# Altium integrated library Resistors.IntLib: 137 symbols (part 1 of 2)
Pins are listed as number, name and electrical type; pins without a type are passive.

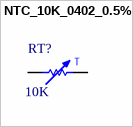
[diagram p0: symbol NTC_10K_0402_0.5%]

## NTC_10K_0402_0.5%
designator RT?, comment value 10K  (hidden comment: 10K 0.5% 0402)
NTC 10K 0.5% 0402 (1005 Metric); PartNumber: NCP15XH103D03RC; Manufacturer: Murata; Power: 0.1W; Mounting Technology: Surface Mount; PackageReference: 0402; PackageDescription: 0402 (1005 Metric); Tolerance: 0.5%
footprint R0402[1005] (Chip Resistor, Body 1.0x0.5mm)
pins: 1, 2
text: T


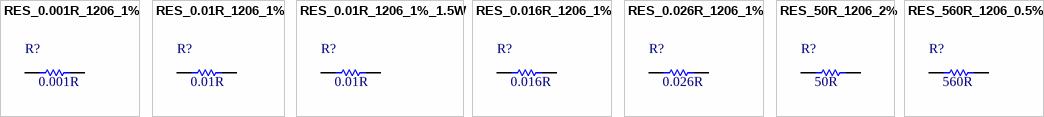
[diagram p1: symbols RES_0.001R_1206_1% to RES_560R_1206_0.5%]

## RES_0.001R_1206_1%
designator R?, comment value 0.001R  (hidden comment: 0.001R 1% 1206)
0.001R 1W 1% 1206 (3216 Metric); Manufacturer: Vishay; PartNumber: WSLP12061L000FEA; Tolerance: 1%; Power: 1W; Mounting Technology: Surface Mount; PackageReference: 1206; PackageDescription: 1206 (3216 Metric); ComponentLink1Description: Datasheet; ComponentLink1URL: https://industrial.panasonic.com/cdbs/www-data/pdf/RDA0000/AOA0000C239.pdf
footprint R1206[3216] (Chip Resistor, Body 3.2x1.6mm)
pins: 1, 2

## RES_0.01R_1206_1%
designator R?, comment value 0.01R  (hidden comment: 0.01R 1% 1206)
0.01R 1W 1% 1206 (3216 Metric); Manufacturer: Panasonic; PartNumber: ERJ-8CWFR010V; Tolerance: 1%; Power: 1W; Mounting Technology: Surface Mount; PackageReference: 1206; PackageDescription: 1206 (3216 Metric); ComponentLink1Description: Datasheet; ComponentLink1URL: https://industrial.panasonic.com/cdbs/www-data/pdf/RDA0000/AOA0000C239.pdf
footprint R1206[3216] (Chip Resistor, Body 3.2x1.6mm)
pins: 1, 2

## RES_0.01R_1206_1%_1.5W
designator R?, comment value 0.01R  (hidden comment: 0.01R 1% 1206)
0.01R 1.5W 1% 1206 (3216 Metric); Manufacturer: KOA Speer; PartNumber: TLR2BPDTD10L0F75; Tolerance: 1%; Power: 1.5W; Mounting Technology: Surface Mount; PackageReference: 1206; PackageDescription: 1206 (3216 Metric)
footprint R1206[3216] (Chip Resistor, Body 3.2x1.6mm)
pins: 1, 2

## RES_0.016R_1206_1%
designator R?, comment value 0.016R  (hidden comment: 0.016R 1% 1206)
0.016R 1W 1% 1206 (3216 Metric); Manufacturer: Panasonic; PartNumber: ERJ-8CWFR016V; Tolerance: 1%; Power: 1W; Mounting Technology: Surface Mount; PackageReference: 1206; PackageDescription: 1206 (3216 Metric); ComponentLink1Description: Datasheet; ComponentLink1URL: https://industrial.panasonic.com/cdbs/www-data/pdf/RDA0000/AOA0000C239.pdf
footprint R1206[3216] (Chip Resistor, Body 3.2x1.6mm)
pins: 1, 2

## RES_0.026R_1206_1%
designator R?, comment value 0.026R  (hidden comment: 0.026R 1% 1206)
0.026R 1W 1% 1206 (3216 Metric); Manufacturer: Panasonic; PartNumber: ERJ-8BWFR027V; Tolerance: 1%; Power: 1W; Mounting Technology: Surface Mount; PackageReference: 1206; PackageDescription: 1206 (3216 Metric); ComponentLink1Description: Datasheet; ComponentLink1URL: https://industrial.panasonic.com/cdbs/www-data/pdf/RDA0000/AOA0000C239.pdf
footprint R1206[3216] (Chip Resistor, Body 3.2x1.6mm)
pins: 1, 2

## RES_50R_1206_2%
designator R?, comment value 50R  (hidden comment: 50R 2% 1206)
50R 2.4W 2% 1206 (3216 Metric); Manufacturer: Vishay; PartNumber: RCP1206W50R0GEB; Tolerance: 2%; Power: 2.4W; Mounting Technology: Surface Mount; PackageReference: 1206; PackageDescription: 1206 (3216 Metric); ComponentLink1Description: Datasheet; ComponentLink1URL: http://www.vishay.com/docs/31098/rcp.pdf
footprint R1206[3216] (Chip Resistor, Body 3.2x1.6mm)
pins: 1, 2

## RES_560R_1206_0.5%
designator R?, comment value 560R  (hidden comment: 560R 0.5% 1206)
560R 1W 0.5% 1206 (3216 Metric); Manufacturer: Susumu; PartNumber: HRG3216P-5600-D-T1; Tolerance: 0.5%; Power: 1W; Mounting Technology: Surface Mount; PackageReference: 1206; PackageDescription: 1206 (3216 Metric); ComponentLink1Description: Datasheet; ComponentLink1URL: http://www.vishay.com/docs/31098/rcp.pdf
footprint R1206[3216] (Chip Resistor, Body 3.2x1.6mm)
pins: 1, 2


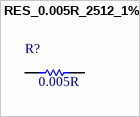
[diagram p2: symbol RES_0.005R_2512_1%]

## RES_0.005R_2512_1%
designator R?, comment value 0.005R  (hidden comment: 0.005R 1% 2512)
0.005R 2.5W 1% 2512 (6432 Metric); Manufacturer: Riedon; PartNumber: CSR2512B0R005F; Tolerance: 1%; Power: 2.5W; Mounting Technology: Surface Mount; PackageReference: 2512; PackageDescription: 2512 (6432 Metric); ComponentLink1Description: Datasheet; ComponentLink1URL: https://industrial.panasonic.com/cdbs/www-data/pdf/RDA0000/AOA0000C239.pdf
footprint R2512[6432] (Chip Resistor, Body 6.35x3.18mm)
pins: 1, 2


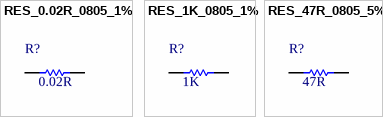
[diagram p3: symbols RES_0.02R_0805_1% to RES_47R_0805_5%]

## RES_0.02R_0805_1%
designator R?, comment value 0.02R  (hidden comment: 0.02R 1% 0805)
0.02R 0.5W 1% 0805 (2012 Metric); Manufacturer: Bourns; PartNumber: CRF0805-FZ-R020ELF; Tolerance: 1%; Power: 0.5W; Mounting Technology: Surface Mount; PackageReference: 0805; PackageDescription: 0805 (2012 Metric)
footprint R0805[2012] (Chip Resistor, Body 2.0x1.25mm)
pins: 1, 2

## RES_1K_0805_1%
designator R?, comment value 1K  (hidden comment: 1K 1% 0805)
1K 0.5W 1% 0805 (2012 Metric); Manufacturer: Panasonic; PartNumber: ERJ-P06F1001V; Tolerance: 1%; Power: 0.5W; Mounting Technology: Surface Mount; PackageReference: 0805; PackageDescription: 0805 (2012 Metric); ComponentLink1Description: Datasheet; ComponentLink1URL: https://industrial.panasonic.com/cdbs/www-data/pdf/RDA0000/AOA0000C243.pdf
footprint R0805[2012] (Chip Resistor, Body 2.0x1.25mm)
pins: 1, 2

## RES_47R_0805_5%
designator R?, comment value 47R  (hidden comment: 47R 5% 0805)
47R 0.5W 5% 0805 (2012 Metric); Manufacturer: Panasonic; PartNumber: ERJ-P06J470V; Tolerance: 5%; Power: 0.5W; Mounting Technology: Surface Mount; PackageReference: 0805; PackageDescription: 0805 (2012 Metric); ComponentLink1Description: Datasheet; ComponentLink1URL: https://industrial.panasonic.com/cdbs/www-data/pdf/RDA0000/AOA0000C243.pdf
footprint R0805[2012] (Chip Resistor, Body 2.0x1.25mm)
pins: 1, 2


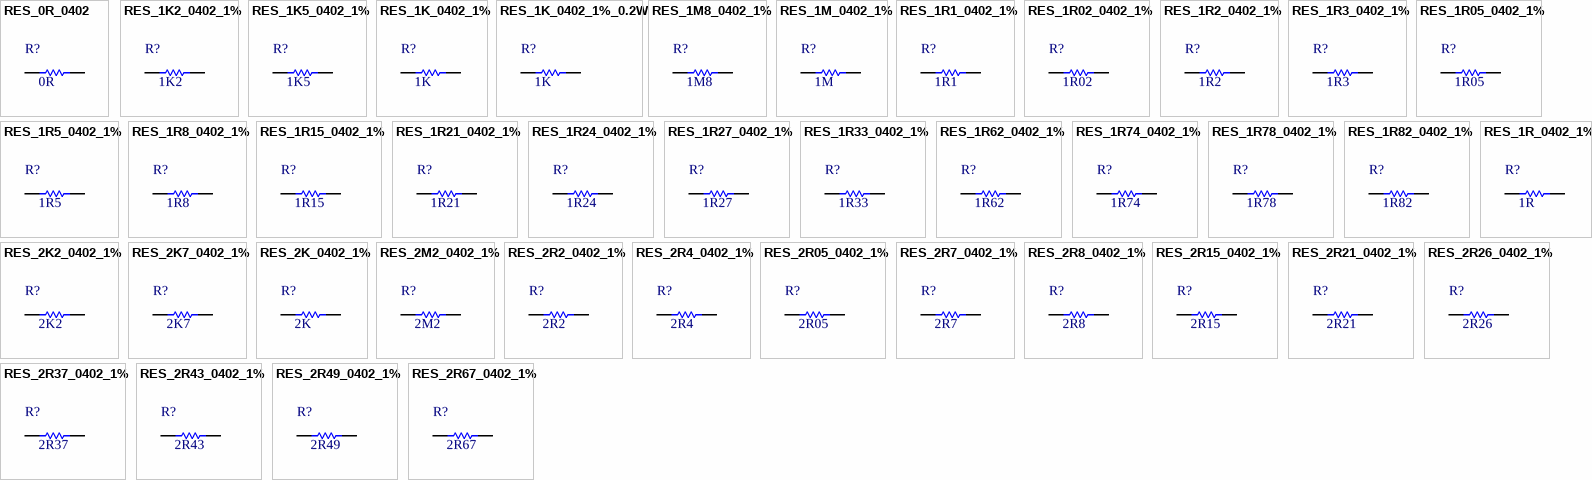
[diagram p4: symbols RES_0R_0402 to RES_2R67_0402_1%]

## RES_0R_0402
designator R?, comment value 0R  (hidden comment: 0R 0402)
0R 0402 (1005 Metric); Manufacturer: KOA Speer; PartNumber: RK73Z1ETTP; Tolerance: None; Power: None; Mounting Technology: Surface Mount; PackageReference: 0402; PackageDescription: 0402 (1005 Metric); ComponentLink1Description: Datasheet; ComponentLink1URL: http://www.koaspeer.com/catimages/Products/RK73Z/RK73Z.pdf
footprint R0402[1005] (Chip Resistor, Body 1.0x0.5mm)
pins: 1, 2

## RES_1K2_0402_1%
designator R?, comment value 1K2  (hidden comment: 1K2 1% 0402)
1K2 0.063W 1% 0402 (1005 Metric); Manufacturer: KOA Speer; PartNumber: RK73H1ETTP1201F; Tolerance: 1%; Power: 0.063W; Mounting Technology: Surface Mount; PackageReference: 0402; PackageDescription: 0402 (1005 Metric); ComponentLink1Description: Datasheet; ComponentLink1URL: http://www.koaspeer.com/catimages/Products/RK73H/RK73H.pdf
footprint R0402[1005] (Chip Resistor, Body 1.0x0.5mm)
pins: 1, 2

## RES_1K5_0402_1%
designator R?, comment value 1K5  (hidden comment: 1K5 1% 0402)
1K5 0.063W 1% 0402 (1005 Metric); Manufacturer: KOA Speer; PartNumber: RK73H1ETTP1501F; Tolerance: 1%; Power: 0.063W; Mounting Technology: Surface Mount; PackageReference: 0402; PackageDescription: 0402 (1005 Metric); ComponentLink1Description: Datasheet; ComponentLink1URL: http://www.koaspeer.com/catimages/Products/RK73H/RK73H.pdf
footprint R0402[1005] (Chip Resistor, Body 1.0x0.5mm)
pins: 1, 2

## RES_1K_0402_1%
designator R?, comment value 1K  (hidden comment: 1K 1% 0402)
1K 0.063W 1% 0402 (1005 Metric); Manufacturer: KOA Speer; PartNumber: RK73H1ETTP1001F; Tolerance: 1%; Power: 0.063W; Mounting Technology: Surface Mount; PackageReference: 0402; PackageDescription: 0402 (1005 Metric); ComponentLink1Description: Datasheet; ComponentLink1URL: http://www.koaspeer.com/catimages/Products/RK73H/RK73H.pdf
footprint R0402[1005] (Chip Resistor, Body 1.0x0.5mm)
pins: 1, 2

## RES_1K_0402_1%_0.2W
designator R?, comment value 1K  (hidden comment: 1K 1% 0402)
1K 0.2W 1% 0402 (1005 Metric); Manufacturer: Vishay / Dale; PartNumber: CRCW04021K00FKEDHP; Tolerance: 1%; Power: 0.2W; Mounting Technology: Surface Mount; PackageReference: 0402; PackageDescription: 0402 (1005 Metric); ComponentLink1Description: Datasheet; ComponentLink1URL: http://www.koaspeer.com/catimages/Products/RK73H/RK73H.pdf
footprint R0402[1005] (Chip Resistor, Body 1.0x0.5mm)
pins: 1, 2

## RES_1M8_0402_1%
designator R?, comment value 1M8  (hidden comment: 1M8 1% 0402)
1M8 0.063W 1% 0402 (1005 Metric); Manufacturer: KOA Speer; PartNumber: RK73H1ETTP1804F; Tolerance: 1%; Power: 0.063W; Mounting Technology: Surface Mount; PackageReference: 0402; PackageDescription: 0402 (1005 Metric); ComponentLink1Description: Datasheet; ComponentLink1URL: http://www.koaspeer.com/catimages/Products/RK73H/RK73H.pdf
footprint R0402[1005] (Chip Resistor, Body 1.0x0.5mm)
pins: 1, 2

## RES_1M_0402_1%
designator R?, comment value 1M  (hidden comment: 1M 1% 0402)
1M 0.063W 1% 0402 (1005 Metric); Manufacturer: KOA Speer; PartNumber: RK73H1ETTP1004F; Tolerance: 1%; Power: 0.063W; Mounting Technology: Surface Mount; PackageReference: 0402; PackageDescription: 0402 (1005 Metric); ComponentLink1Description: Datasheet; ComponentLink1URL: http://www.koaspeer.com/catimages/Products/RK73H/RK73H.pdf
footprint R0402[1005] (Chip Resistor, Body 1.0x0.5mm)
pins: 1, 2

## RES_1R1_0402_1%
designator R?, comment value 1R1  (hidden comment: 1R1 1% 0402)
1R1 0.063W 1% 0402 (1005 Metric); Manufacturer: KOA Speer; PartNumber: RK73H1ETTP1R10F; Tolerance: 1%; Power: 0.063W; Mounting Technology: Surface Mount; PackageReference: 0402; PackageDescription: 0402 (1005 Metric); ComponentLink1Description: Datasheet; ComponentLink1URL: http://www.koaspeer.com/catimages/Products/RK73H/RK73H.pdf
footprint R0402[1005] (Chip Resistor, Body 1.0x0.5mm)
pins: 1, 2

## RES_1R02_0402_1%
designator R?, comment value 1R02  (hidden comment: 1R02 1% 0402)
1R02 0.063W 1% 0402 (1005 Metric); Manufacturer: KOA Speer; PartNumber: RK73H1ETTP1R02F; Tolerance: 1%; Power: 0.063W; Mounting Technology: Surface Mount; PackageReference: 0402; PackageDescription: 0402 (1005 Metric); ComponentLink1Description: Datasheet; ComponentLink1URL: http://www.koaspeer.com/catimages/Products/RK73H/RK73H.pdf
footprint R0402[1005] (Chip Resistor, Body 1.0x0.5mm)
pins: 1, 2

## RES_1R2_0402_1%
designator R?, comment value 1R2  (hidden comment: 1R2 1% 0402)
1R2 0.063W 1% 0402 (1005 Metric); Manufacturer: KOA Speer; PartNumber: RK73H1ETTP1R20F; Tolerance: 1%; Power: 0.063W; Mounting Technology: Surface Mount; PackageReference: 0402; PackageDescription: 0402 (1005 Metric); ComponentLink1Description: Datasheet; ComponentLink1URL: http://www.koaspeer.com/catimages/Products/RK73H/RK73H.pdf
footprint R0402[1005] (Chip Resistor, Body 1.0x0.5mm)
pins: 1, 2

## RES_1R3_0402_1%
designator R?, comment value 1R3  (hidden comment: 1R3 1% 0402)
1R3 0.063W 1% 0402 (1005 Metric); Manufacturer: KOA Speer; PartNumber: RK73H1ETTP1R30F; Tolerance: 1%; Power: 0.063W; Mounting Technology: Surface Mount; PackageReference: 0402; PackageDescription: 0402 (1005 Metric); ComponentLink1Description: Datasheet; ComponentLink1URL: http://www.koaspeer.com/catimages/Products/RK73H/RK73H.pdf
footprint R0402[1005] (Chip Resistor, Body 1.0x0.5mm)
pins: 1, 2

## RES_1R05_0402_1%
designator R?, comment value 1R05  (hidden comment: 1R05 1% 0402)
1R05 0.063W 1% 0402 (1005 Metric); Manufacturer: KOA Speer; PartNumber: RK73H1ETTP1R05F; Tolerance: 1%; Power: 0.063W; Mounting Technology: Surface Mount; PackageReference: 0402; PackageDescription: 0402 (1005 Metric); ComponentLink1Description: Datasheet; ComponentLink1URL: http://www.koaspeer.com/catimages/Products/RK73H/RK73H.pdf
footprint R0402[1005] (Chip Resistor, Body 1.0x0.5mm)
pins: 1, 2

## RES_1R5_0402_1%
designator R?, comment value 1R5  (hidden comment: 1R5 1% 0402)
1R5 0.063W 1% 0402 (1005 Metric); Manufacturer: KOA Speer; PartNumber: RK73H1ETTP1R50F; Tolerance: 1%; Power: 0.063W; Mounting Technology: Surface Mount; PackageReference: 0402; PackageDescription: 0402 (1005 Metric); ComponentLink1Description: Datasheet; ComponentLink1URL: http://www.koaspeer.com/catimages/Products/RK73H/RK73H.pdf
footprint R0402[1005] (Chip Resistor, Body 1.0x0.5mm)
pins: 1, 2

## RES_1R8_0402_1%
designator R?, comment value 1R8  (hidden comment: 1R8 1% 0402)
1R8 0.063W 1% 0402 (1005 Metric); Manufacturer: KOA Speer; PartNumber: RK73H1ETTP1R80F; Tolerance: 1%; Power: 0.063W; Mounting Technology: Surface Mount; PackageReference: 0402; PackageDescription: 0402 (1005 Metric); ComponentLink1Description: Datasheet; ComponentLink1URL: http://www.koaspeer.com/catimages/Products/RK73H/RK73H.pdf
footprint R0402[1005] (Chip Resistor, Body 1.0x0.5mm)
pins: 1, 2

## RES_1R15_0402_1%
designator R?, comment value 1R15  (hidden comment: 1R15 1% 0402)
1R15 0.063W 1% 0402 (1005 Metric); Manufacturer: KOA Speer; PartNumber: RK73H1ETTP1R15F; Tolerance: 1%; Power: 0.063W; Mounting Technology: Surface Mount; PackageReference: 0402; PackageDescription: 0402 (1005 Metric); ComponentLink1Description: Datasheet; ComponentLink1URL: http://www.koaspeer.com/catimages/Products/RK73H/RK73H.pdf
footprint R0402[1005] (Chip Resistor, Body 1.0x0.5mm)
pins: 1, 2

## RES_1R21_0402_1%
designator R?, comment value 1R21  (hidden comment: 1R21 1% 0402)
1R21 0.063W 1% 0402 (1005 Metric); Manufacturer: KOA Speer; PartNumber: RK73H1ETTP1R21F; Tolerance: 1%; Power: 0.063W; Mounting Technology: Surface Mount; PackageReference: 0402; PackageDescription: 0402 (1005 Metric); ComponentLink1Description: Datasheet; ComponentLink1URL: http://www.koaspeer.com/catimages/Products/RK73H/RK73H.pdf
footprint R0402[1005] (Chip Resistor, Body 1.0x0.5mm)
pins: 1, 2

## RES_1R24_0402_1%
designator R?, comment value 1R24  (hidden comment: 1R24 1% 0402)
1R24 0.063W 1% 0402 (1005 Metric); Manufacturer: KOA Speer; PartNumber: RK73H1ETTP1R24F; Tolerance: 1%; Power: 0.063W; Mounting Technology: Surface Mount; PackageReference: 0402; PackageDescription: 0402 (1005 Metric); ComponentLink1Description: Datasheet; ComponentLink1URL: http://www.koaspeer.com/catimages/Products/RK73H/RK73H.pdf
footprint R0402[1005] (Chip Resistor, Body 1.0x0.5mm)
pins: 1, 2

## RES_1R27_0402_1%
designator R?, comment value 1R27  (hidden comment: 1R27 1% 0402)
1R27 0.063W 1% 0402 (1005 Metric); Manufacturer: KOA Speer; PartNumber: RK73H1ETTP1R27F; Tolerance: 1%; Power: 0.063W; Mounting Technology: Surface Mount; PackageReference: 0402; PackageDescription: 0402 (1005 Metric); ComponentLink1Description: Datasheet; ComponentLink1URL: http://www.koaspeer.com/catimages/Products/RK73H/RK73H.pdf
footprint R0402[1005] (Chip Resistor, Body 1.0x0.5mm)
pins: 1, 2

## RES_1R33_0402_1%
designator R?, comment value 1R33  (hidden comment: 1R33 1% 0402)
1R33 0.063W 1% 0402 (1005 Metric); Manufacturer: KOA Speer; PartNumber: RK73H1ETTP1R33F; Tolerance: 1%; Power: 0.063W; Mounting Technology: Surface Mount; PackageReference: 0402; PackageDescription: 0402 (1005 Metric); ComponentLink1Description: Datasheet; ComponentLink1URL: http://www.koaspeer.com/catimages/Products/RK73H/RK73H.pdf
footprint R0402[1005] (Chip Resistor, Body 1.0x0.5mm)
pins: 1, 2

## RES_1R62_0402_1%
designator R?, comment value 1R62  (hidden comment: 1R62 1% 0402)
1R62 0.063W 1% 0402 (1005 Metric); Manufacturer: KOA Speer; PartNumber: RK73H1ETTP1R62F; Tolerance: 1%; Power: 0.063W; Mounting Technology: Surface Mount; PackageReference: 0402; PackageDescription: 0402 (1005 Metric); ComponentLink1Description: Datasheet; ComponentLink1URL: http://www.koaspeer.com/catimages/Products/RK73H/RK73H.pdf
footprint R0402[1005] (Chip Resistor, Body 1.0x0.5mm)
pins: 1, 2

## RES_1R74_0402_1%
designator R?, comment value 1R74  (hidden comment: 1R74 1% 0402)
1R74 0.063W 1% 0402 (1005 Metric); Manufacturer: KOA Speer; PartNumber: RK73H1ETTP1R74F; Tolerance: 1%; Power: 0.063W; Mounting Technology: Surface Mount; PackageReference: 0402; PackageDescription: 0402 (1005 Metric); ComponentLink1Description: Datasheet; ComponentLink1URL: http://www.koaspeer.com/catimages/Products/RK73H/RK73H.pdf
footprint R0402[1005] (Chip Resistor, Body 1.0x0.5mm)
pins: 1, 2

## RES_1R78_0402_1%
designator R?, comment value 1R78  (hidden comment: 1R78 1% 0402)
1R78 0.063W 1% 0402 (1005 Metric); Manufacturer: KOA Speer; PartNumber: RK73H1ETTP1R78F; Tolerance: 1%; Power: 0.063W; Mounting Technology: Surface Mount; PackageReference: 0402; PackageDescription: 0402 (1005 Metric); ComponentLink1Description: Datasheet; ComponentLink1URL: http://www.koaspeer.com/catimages/Products/RK73H/RK73H.pdf
footprint R0402[1005] (Chip Resistor, Body 1.0x0.5mm)
pins: 1, 2

## RES_1R82_0402_1%
designator R?, comment value 1R82  (hidden comment: 1R82 1% 0402)
1R82 0.063W 1% 0402 (1005 Metric); Manufacturer: KOA Speer; PartNumber: RK73H1ETTP1R82F; Tolerance: 1%; Power: 0.063W; Mounting Technology: Surface Mount; PackageReference: 0402; PackageDescription: 0402 (1005 Metric); ComponentLink1Description: Datasheet; ComponentLink1URL: http://www.koaspeer.com/catimages/Products/RK73H/RK73H.pdf
footprint R0402[1005] (Chip Resistor, Body 1.0x0.5mm)
pins: 1, 2

## RES_1R_0402_1%
designator R?, comment value 1R  (hidden comment: 1R 1% 0402)
1R 0.063W 1% 0402 (1005 Metric); Manufacturer: KOA Speer; PartNumber: RK73H1ETTP1R00F; Tolerance: 1%; Power: 0.063W; Mounting Technology: Surface Mount; PackageReference: 0402; PackageDescription: 0402 (1005 Metric); ComponentLink1Description: Datasheet; ComponentLink1URL: http://www.koaspeer.com/catimages/Products/RK73H/RK73H.pdf
footprint R0402[1005] (Chip Resistor, Body 1.0x0.5mm)
pins: 1, 2

## RES_2K2_0402_1%
designator R?, comment value 2K2  (hidden comment: 2K2 1% 0402)
2K2 0.063W 1% 0402 (1005 Metric); Manufacturer: KOA Speer; PartNumber: RK73H1ETTP2201F; Tolerance: 1%; Power: 0.063W; Mounting Technology: Surface Mount; PackageReference: 0402; PackageDescription: 0402 (1005 Metric); ComponentLink1Description: Datasheet; ComponentLink1URL: http://www.koaspeer.com/catimages/Products/RK73H/RK73H.pdf
footprint R0402[1005] (Chip Resistor, Body 1.0x0.5mm)
pins: 1, 2

## RES_2K7_0402_1%
designator R?, comment value 2K7  (hidden comment: 2K7 1% 0402)
2K7 0.063W 1% 0402 (1005 Metric); Manufacturer: KOA Speer; PartNumber: RK73H1ETTP2701F; Tolerance: 1%; Power: 0.063W; Mounting Technology: Surface Mount; PackageReference: 0402; PackageDescription: 0402 (1005 Metric); ComponentLink1Description: Datasheet; ComponentLink1URL: http://www.koaspeer.com/catimages/Products/RK73H/RK73H.pdf
footprint R0402[1005] (Chip Resistor, Body 1.0x0.5mm)
pins: 1, 2

## RES_2K_0402_1%
designator R?, comment value 2K  (hidden comment: 2K 1% 0402)
2K 0.063W 1% 0402 (1005 Metric); Manufacturer: KOA Speer; PartNumber: RK73H1ETTP2001F; Tolerance: 1%; Power: 0.063W; Mounting Technology: Surface Mount; PackageReference: 0402; PackageDescription: 0402 (1005 Metric); ComponentLink1Description: Datasheet; ComponentLink1URL: http://www.koaspeer.com/catimages/Products/RK73H/RK73H.pdf
footprint R0402[1005] (Chip Resistor, Body 1.0x0.5mm)
pins: 1, 2

## RES_2M2_0402_1%
designator R?, comment value 2M2  (hidden comment: 2M2 1% 0402)
2M2 0.063W 1% 0402 (1005 Metric); Manufacturer: KOA Speer; PartNumber: RK73H1ETTP2204F; Tolerance: 1%; Power: 0.063W; Mounting Technology: Surface Mount; PackageReference: 0402; PackageDescription: 0402 (1005 Metric); ComponentLink1Description: Datasheet; ComponentLink1URL: http://www.koaspeer.com/catimages/Products/RK73H/RK73H.pdf
footprint R0402[1005] (Chip Resistor, Body 1.0x0.5mm)
pins: 1, 2

## RES_2R2_0402_1%
designator R?, comment value 2R2  (hidden comment: 2R2 1% 0402)
2R2 0.063W 1% 0402 (1005 Metric); Manufacturer: KOA Speer; PartNumber: RK73H1ETTP2R20F; Tolerance: 1%; Power: 0.063W; Mounting Technology: Surface Mount; PackageReference: 0402; PackageDescription: 0402 (1005 Metric); ComponentLink1Description: Datasheet; ComponentLink1URL: http://www.koaspeer.com/catimages/Products/RK73H/RK73H.pdf
footprint R0402[1005] (Chip Resistor, Body 1.0x0.5mm)
pins: 1, 2

## RES_2R4_0402_1%
designator R?, comment value 2R4  (hidden comment: 2R4 1% 0402)
2R4 0.063W 1% 0402 (1005 Metric); Manufacturer: KOA Speer; PartNumber: RK73H1ETTP2R40F; Tolerance: 1%; Power: 0.063W; Mounting Technology: Surface Mount; PackageReference: 0402; PackageDescription: 0402 (1005 Metric); ComponentLink1Description: Datasheet; ComponentLink1URL: http://www.koaspeer.com/catimages/Products/RK73H/RK73H.pdf
footprint R0402[1005] (Chip Resistor, Body 1.0x0.5mm)
pins: 1, 2

## RES_2R05_0402_1%
designator R?, comment value 2R05  (hidden comment: 2R05 1% 0402)
2R05 0.063W 1% 0402 (1005 Metric); Manufacturer: KOA Speer; PartNumber: RK73H1ETTP2R05F; Tolerance: 1%; Power: 0.063W; Mounting Technology: Surface Mount; PackageReference: 0402; PackageDescription: 0402 (1005 Metric); ComponentLink1Description: Datasheet; ComponentLink1URL: http://www.koaspeer.com/catimages/Products/RK73H/RK73H.pdf
footprint R0402[1005] (Chip Resistor, Body 1.0x0.5mm)
pins: 1, 2

## RES_2R7_0402_1%
designator R?, comment value 2R7  (hidden comment: 2R7 1% 0402)
2R7 0.063W 1% 0402 (1005 Metric); Manufacturer: KOA Speer; PartNumber: RK73H1ETTP2R70F; Tolerance: 1%; Power: 0.063W; Mounting Technology: Surface Mount; PackageReference: 0402; PackageDescription: 0402 (1005 Metric); ComponentLink1Description: Datasheet; ComponentLink1URL: http://www.koaspeer.com/catimages/Products/RK73H/RK73H.pdf
footprint R0402[1005] (Chip Resistor, Body 1.0x0.5mm)
pins: 1, 2

## RES_2R8_0402_1%
designator R?, comment value 2R8  (hidden comment: 2R8 1% 0402)
2R8 0.063W 1% 0402 (1005 Metric); Manufacturer: KOA Speer; PartNumber: RK73H1ETTP2R80F; Tolerance: 1%; Power: 0.063W; Mounting Technology: Surface Mount; PackageReference: 0402; PackageDescription: 0402 (1005 Metric); ComponentLink1Description: Datasheet; ComponentLink1URL: http://www.koaspeer.com/catimages/Products/RK73H/RK73H.pdf
footprint R0402[1005] (Chip Resistor, Body 1.0x0.5mm)
pins: 1, 2

## RES_2R15_0402_1%
designator R?, comment value 2R15  (hidden comment: 2R15 1% 0402)
2R15 0.063W 1% 0402 (1005 Metric); Manufacturer: KOA Speer; PartNumber: RK73H1ETTP2R15F; Tolerance: 1%; Power: 0.063W; Mounting Technology: Surface Mount; PackageReference: 0402; PackageDescription: 0402 (1005 Metric); ComponentLink1Description: Datasheet; ComponentLink1URL: http://www.koaspeer.com/catimages/Products/RK73H/RK73H.pdf
footprint R0402[1005] (Chip Resistor, Body 1.0x0.5mm)
pins: 1, 2

## RES_2R21_0402_1%
designator R?, comment value 2R21  (hidden comment: 2R21 1% 0402)
2R21 0.063W 1% 0402 (1005 Metric); Manufacturer: KOA Speer; PartNumber: RK73H1ETTP2R21F; Tolerance: 1%; Power: 0.063W; Mounting Technology: Surface Mount; PackageReference: 0402; PackageDescription: 0402 (1005 Metric); ComponentLink1Description: Datasheet; ComponentLink1URL: http://www.koaspeer.com/catimages/Products/RK73H/RK73H.pdf
footprint R0402[1005] (Chip Resistor, Body 1.0x0.5mm)
pins: 1, 2

## RES_2R26_0402_1%
designator R?, comment value 2R26  (hidden comment: 2R26 1% 0402)
2R26 0.063W 1% 0402 (1005 Metric); Manufacturer: KOA Speer; PartNumber: RK73H1ETTP2R26F; Tolerance: 1%; Power: 0.063W; Mounting Technology: Surface Mount; PackageReference: 0402; PackageDescription: 0402 (1005 Metric); ComponentLink1Description: Datasheet; ComponentLink1URL: http://www.koaspeer.com/catimages/Products/RK73H/RK73H.pdf
footprint R0402[1005] (Chip Resistor, Body 1.0x0.5mm)
pins: 1, 2

## RES_2R37_0402_1%
designator R?, comment value 2R37  (hidden comment: 2R37 1% 0402)
2R37 0.063W 1% 0402 (1005 Metric); Manufacturer: KOA Speer; PartNumber: RK73H1ETTP2R37F; Tolerance: 1%; Power: 0.063W; Mounting Technology: Surface Mount; PackageReference: 0402; PackageDescription: 0402 (1005 Metric); ComponentLink1Description: Datasheet; ComponentLink1URL: http://www.koaspeer.com/catimages/Products/RK73H/RK73H.pdf
footprint R0402[1005] (Chip Resistor, Body 1.0x0.5mm)
pins: 1, 2

## RES_2R43_0402_1%
designator R?, comment value 2R43  (hidden comment: 2R43 1% 0402)
2R43 0.063W 1% 0402 (1005 Metric); Manufacturer: KOA Speer; PartNumber: RK73H1ETTP2R43F; Tolerance: 1%; Power: 0.063W; Mounting Technology: Surface Mount; PackageReference: 0402; PackageDescription: 0402 (1005 Metric); ComponentLink1Description: Datasheet; ComponentLink1URL: http://www.koaspeer.com/catimages/Products/RK73H/RK73H.pdf
footprint R0402[1005] (Chip Resistor, Body 1.0x0.5mm)
pins: 1, 2

## RES_2R49_0402_1%
designator R?, comment value 2R49  (hidden comment: 2R49 1% 0402)
2R49 0.063W 1% 0402 (1005 Metric); Manufacturer: KOA Speer; PartNumber: RK73H1ETTP2R49F; Tolerance: 1%; Power: 0.063W; Mounting Technology: Surface Mount; PackageReference: 0402; PackageDescription: 0402 (1005 Metric); ComponentLink1Description: Datasheet; ComponentLink1URL: http://www.koaspeer.com/catimages/Products/RK73H/RK73H.pdf
footprint R0402[1005] (Chip Resistor, Body 1.0x0.5mm)
pins: 1, 2

## RES_2R67_0402_1%
designator R?, comment value 2R67  (hidden comment: 2R67 1% 0402)
2R67 0.063W 1% 0402 (1005 Metric); Manufacturer: KOA Speer; PartNumber: RK73H1ETTP2R67F; Tolerance: 1%; Power: 0.063W; Mounting Technology: Surface Mount; PackageReference: 0402; PackageDescription: 0402 (1005 Metric); ComponentLink1Description: Datasheet; ComponentLink1URL: http://www.koaspeer.com/catimages/Products/RK73H/RK73H.pdf
footprint R0402[1005] (Chip Resistor, Body 1.0x0.5mm)
pins: 1, 2

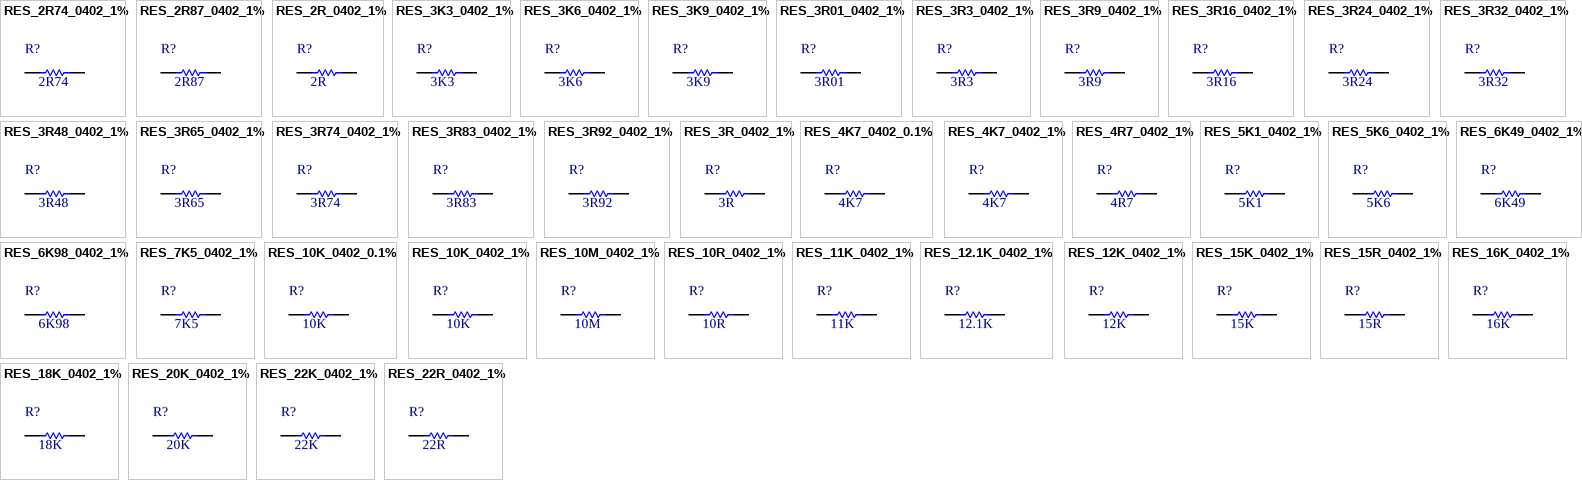
[diagram p5: symbols RES_2R74_0402_1% to RES_22R_0402_1%]

## RES_2R74_0402_1%
designator R?, comment value 2R74  (hidden comment: 2R74 1% 0402)
2R74 0.063W 1% 0402 (1005 Metric); Manufacturer: KOA Speer; PartNumber: RK73H1ETTP2R74F; Tolerance: 1%; Power: 0.063W; Mounting Technology: Surface Mount; PackageReference: 0402; PackageDescription: 0402 (1005 Metric); ComponentLink1Description: Datasheet; ComponentLink1URL: http://www.koaspeer.com/catimages/Products/RK73H/RK73H.pdf
footprint R0402[1005] (Chip Resistor, Body 1.0x0.5mm)
pins: 1, 2

## RES_2R87_0402_1%
designator R?, comment value 2R87  (hidden comment: 2R87 1% 0402)
2R87 0.063W 1% 0402 (1005 Metric); Manufacturer: KOA Speer; PartNumber: RK73H1ETTP2R87F; Tolerance: 1%; Power: 0.063W; Mounting Technology: Surface Mount; PackageReference: 0402; PackageDescription: 0402 (1005 Metric); ComponentLink1Description: Datasheet; ComponentLink1URL: http://www.koaspeer.com/catimages/Products/RK73H/RK73H.pdf
footprint R0402[1005] (Chip Resistor, Body 1.0x0.5mm)
pins: 1, 2

## RES_2R_0402_1%
designator R?, comment value 2R  (hidden comment: 2R 1% 0402)
2R 0.063W 1% 0402 (1005 Metric); Manufacturer: KOA Speer; PartNumber: RK73H1ETTP2R00F; Tolerance: 1%; Power: 0.063W; Mounting Technology: Surface Mount; PackageReference: 0402; PackageDescription: 0402 (1005 Metric); ComponentLink1Description: Datasheet; ComponentLink1URL: http://www.koaspeer.com/catimages/Products/RK73H/RK73H.pdf
footprint R0402[1005] (Chip Resistor, Body 1.0x0.5mm)
pins: 1, 2

## RES_3K3_0402_1%
designator R?, comment value 3K3  (hidden comment: 3K3 1% 0402)
3K3 0.063W 1% 0402 (1005 Metric); Manufacturer: KOA Speer; PartNumber: RK73H1ETTP3301F; Tolerance: 1%; Power: 0.063W; Mounting Technology: Surface Mount; PackageReference: 0402; PackageDescription: 0402 (1005 Metric); ComponentLink1Description: Datasheet; ComponentLink1URL: http://www.koaspeer.com/catimages/Products/RK73H/RK73H.pdf
footprint R0402[1005] (Chip Resistor, Body 1.0x0.5mm)
pins: 1, 2

## RES_3K6_0402_1%
designator R?, comment value 3K6  (hidden comment: 3K6 1% 0402)
3K6 0.063W 1% 0402 (1005 Metric); Manufacturer: KOA Speer; PartNumber: RK73H1ETTP3601F; Tolerance: 1%; Power: 0.063W; Mounting Technology: Surface Mount; PackageReference: 0402; PackageDescription: 0402 (1005 Metric); ComponentLink1Description: Datasheet; ComponentLink1URL: http://www.koaspeer.com/catimages/Products/RK73H/RK73H.pdf
footprint R0402[1005] (Chip Resistor, Body 1.0x0.5mm)
pins: 1, 2

## RES_3K9_0402_1%
designator R?, comment value 3K9  (hidden comment: 3K9 1% 0402)
3K9 0.063W 1% 0402 (1005 Metric); Manufacturer: KOA Speer; PartNumber: RK73H1ETTP3901F; Tolerance: 1%; Power: 0.063W; Mounting Technology: Surface Mount; PackageReference: 0402; PackageDescription: 0402 (1005 Metric); ComponentLink1Description: Datasheet; ComponentLink1URL: http://www.koaspeer.com/catimages/Products/RK73H/RK73H.pdf
footprint R0402[1005] (Chip Resistor, Body 1.0x0.5mm)
pins: 1, 2

## RES_3R01_0402_1%
designator R?, comment value 3R01  (hidden comment: 3R01 1% 0402)
3R01 0.063W 1% 0402 (1005 Metric); Manufacturer: KOA Speer; PartNumber: RK73H1ETTP2R00F; Tolerance: 1%; Power: 0.063W; Mounting Technology: Surface Mount; PackageReference: 0402; PackageDescription: 0402 (1005 Metric); ComponentLink1Description: Datasheet; ComponentLink1URL: http://www.koaspeer.com/catimages/Products/RK73H/RK73H.pdf
footprint R0402[1005] (Chip Resistor, Body 1.0x0.5mm)
pins: 1, 2

## RES_3R3_0402_1%
designator R?, comment value 3R3  (hidden comment: 3R3 1% 0402)
3R3 0.063W 1% 0402 (1005 Metric); Manufacturer: KOA Speer; PartNumber: RK73H1ETTP2R00F; Tolerance: 1%; Power: 0.063W; Mounting Technology: Surface Mount; PackageReference: 0402; PackageDescription: 0402 (1005 Metric); ComponentLink1Description: Datasheet; ComponentLink1URL: http://www.koaspeer.com/catimages/Products/RK73H/RK73H.pdf
footprint R0402[1005] (Chip Resistor, Body 1.0x0.5mm)
pins: 1, 2

## RES_3R9_0402_1%
designator R?, comment value 3R9  (hidden comment: 3R9 1% 0402)
3R9 0.063W 1% 0402 (1005 Metric); Manufacturer: KOA Speer; PartNumber: RK73H1ETTP2R00F; Tolerance: 1%; Power: 0.063W; Mounting Technology: Surface Mount; PackageReference: 0402; PackageDescription: 0402 (1005 Metric); ComponentLink1Description: Datasheet; ComponentLink1URL: http://www.koaspeer.com/catimages/Products/RK73H/RK73H.pdf
footprint R0402[1005] (Chip Resistor, Body 1.0x0.5mm)
pins: 1, 2

## RES_3R16_0402_1%
designator R?, comment value 3R16  (hidden comment: 3R16 1% 0402)
3R16 0.063W 1% 0402 (1005 Metric); Manufacturer: KOA Speer; PartNumber: RK73H1ETTP2R00F; Tolerance: 1%; Power: 0.063W; Mounting Technology: Surface Mount; PackageReference: 0402; PackageDescription: 0402 (1005 Metric); ComponentLink1Description: Datasheet; ComponentLink1URL: http://www.koaspeer.com/catimages/Products/RK73H/RK73H.pdf
footprint R0402[1005] (Chip Resistor, Body 1.0x0.5mm)
pins: 1, 2

## RES_3R24_0402_1%
designator R?, comment value 3R24  (hidden comment: 3R24 1% 0402)
3R24 0.063W 1% 0402 (1005 Metric); Manufacturer: KOA Speer; PartNumber: RK73H1ETTP2R00F; Tolerance: 1%; Power: 0.063W; Mounting Technology: Surface Mount; PackageReference: 0402; PackageDescription: 0402 (1005 Metric); ComponentLink1Description: Datasheet; ComponentLink1URL: http://www.koaspeer.com/catimages/Products/RK73H/RK73H.pdf
footprint R0402[1005] (Chip Resistor, Body 1.0x0.5mm)
pins: 1, 2

## RES_3R32_0402_1%
designator R?, comment value 3R32  (hidden comment: 3R32 1% 0402)
3R32 0.063W 1% 0402 (1005 Metric); Manufacturer: KOA Speer; PartNumber: RK73H1ETTP2R00F; Tolerance: 1%; Power: 0.063W; Mounting Technology: Surface Mount; PackageReference: 0402; PackageDescription: 0402 (1005 Metric); ComponentLink1Description: Datasheet; ComponentLink1URL: http://www.koaspeer.com/catimages/Products/RK73H/RK73H.pdf
footprint R0402[1005] (Chip Resistor, Body 1.0x0.5mm)
pins: 1, 2

## RES_3R48_0402_1%
designator R?, comment value 3R48  (hidden comment: 3R48 1% 0402)
3R48 0.063W 1% 0402 (1005 Metric); Manufacturer: KOA Speer; PartNumber: RK73H1ETTP2R00F; Tolerance: 1%; Power: 0.063W; Mounting Technology: Surface Mount; PackageReference: 0402; PackageDescription: 0402 (1005 Metric); ComponentLink1Description: Datasheet; ComponentLink1URL: http://www.koaspeer.com/catimages/Products/RK73H/RK73H.pdf
footprint R0402[1005] (Chip Resistor, Body 1.0x0.5mm)
pins: 1, 2

## RES_3R65_0402_1%
designator R?, comment value 3R65  (hidden comment: 3R65 1% 0402)
3R65 0.063W 1% 0402 (1005 Metric); Manufacturer: KOA Speer; PartNumber: RK73H1ETTP2R00F; Tolerance: 1%; Power: 0.063W; Mounting Technology: Surface Mount; PackageReference: 0402; PackageDescription: 0402 (1005 Metric); ComponentLink1Description: Datasheet; ComponentLink1URL: http://www.koaspeer.com/catimages/Products/RK73H/RK73H.pdf
footprint R0402[1005] (Chip Resistor, Body 1.0x0.5mm)
pins: 1, 2

## RES_3R74_0402_1%
designator R?, comment value 3R74  (hidden comment: 3R74 1% 0402)
3R74 0.063W 1% 0402 (1005 Metric); Manufacturer: KOA Speer; PartNumber: RK73H1ETTP2R00F; Tolerance: 1%; Power: 0.063W; Mounting Technology: Surface Mount; PackageReference: 0402; PackageDescription: 0402 (1005 Metric); ComponentLink1Description: Datasheet; ComponentLink1URL: http://www.koaspeer.com/catimages/Products/RK73H/RK73H.pdf
footprint R0402[1005] (Chip Resistor, Body 1.0x0.5mm)
pins: 1, 2

## RES_3R83_0402_1%
designator R?, comment value 3R83  (hidden comment: 3R83 1% 0402)
3R83 0.063W 1% 0402 (1005 Metric); Manufacturer: KOA Speer; PartNumber: RK73H1ETTP2R00F; Tolerance: 1%; Power: 0.063W; Mounting Technology: Surface Mount; PackageReference: 0402; PackageDescription: 0402 (1005 Metric); ComponentLink1Description: Datasheet; ComponentLink1URL: http://www.koaspeer.com/catimages/Products/RK73H/RK73H.pdf
footprint R0402[1005] (Chip Resistor, Body 1.0x0.5mm)
pins: 1, 2

## RES_3R92_0402_1%
designator R?, comment value 3R92  (hidden comment: 3R92 1% 0402)
3R92 0.063W 1% 0402 (1005 Metric); Manufacturer: KOA Speer; PartNumber: RK73H1ETTP2R00F; Tolerance: 1%; Power: 0.063W; Mounting Technology: Surface Mount; PackageReference: 0402; PackageDescription: 0402 (1005 Metric); ComponentLink1Description: Datasheet; ComponentLink1URL: http://www.koaspeer.com/catimages/Products/RK73H/RK73H.pdf
footprint R0402[1005] (Chip Resistor, Body 1.0x0.5mm)
pins: 1, 2

## RES_3R_0402_1%
designator R?, comment value 3R  (hidden comment: 3R 1% 0402)
3R 0.063W 1% 0402 (1005 Metric); Manufacturer: KOA Speer; PartNumber: RK73H1ETTP2R00F; Tolerance: 1%; Power: 0.063W; Mounting Technology: Surface Mount; PackageReference: 0402; PackageDescription: 0402 (1005 Metric); ComponentLink1Description: Datasheet; ComponentLink1URL: http://www.koaspeer.com/catimages/Products/RK73H/RK73H.pdf
footprint R0402[1005] (Chip Resistor, Body 1.0x0.5mm)
pins: 1, 2

## RES_4K7_0402_0.1%
designator R?, comment value 4K7  (hidden comment: 4K7 0.1% 0402)
4K7 0.063W 0.1% 0402 (1005 Metric); Manufacturer: KOA Speer; PartNumber: RT0402BRB074K7L; Tolerance: 0.1%; Power: 0.063W; Mounting Technology: Surface Mount; PackageReference: 0402; PackageDescription: 0402 (1005 Metric); ComponentLink1Description: Datasheet; ComponentLink1URL: http://www.koaspeer.com/catimages/Products/RK73H/RK73H.pdf
footprint R0402[1005] (Chip Resistor, Body 1.0x0.5mm)
pins: 1, 2

## RES_4K7_0402_1%
designator R?, comment value 4K7  (hidden comment: 4K7 1% 0402)
4K7 0.063W 1% 0402 (1005 Metric); Manufacturer: KOA Speer; PartNumber: RK73H1ETTP4701F; Tolerance: 1%; Power: 0.063W; Mounting Technology: Surface Mount; PackageReference: 0402; PackageDescription: 0402 (1005 Metric); ComponentLink1Description: Datasheet; ComponentLink1URL: http://www.koaspeer.com/catimages/Products/RK73H/RK73H.pdf
footprint R0402[1005] (Chip Resistor, Body 1.0x0.5mm)
pins: 1, 2

## RES_4R7_0402_1%
designator R?, comment value 4R7  (hidden comment: 4R7 1% 0402)
4R7 0.063W 1% 0402 (1005 Metric); Manufacturer: KOA Speer; PartNumber: RK73H1ETTP4R70F; Tolerance: 1%; Power: 0.063W; Mounting Technology: Surface Mount; PackageReference: 0402; PackageDescription: 0402 (1005 Metric); ComponentLink1Description: Datasheet; ComponentLink1URL: http://www.koaspeer.com/catimages/Products/RK73H/RK73H.pdf
footprint R0402[1005] (Chip Resistor, Body 1.0x0.5mm)
pins: 1, 2

## RES_5K1_0402_1%
designator R?, comment value 5K1  (hidden comment: 5K1 1% 0402)
5K1 0.063W 1% 0402 (1005 Metric); Manufacturer: KOA Speer; PartNumber: RK73H1ETTP5101F; Tolerance: 1%; Power: 0.063W; Mounting Technology: Surface Mount; PackageReference: 0402; PackageDescription: 0402 (1005 Metric); ComponentLink1Description: Datasheet; ComponentLink1URL: http://www.koaspeer.com/catimages/Products/RK73H/RK73H.pdf
footprint R0402[1005] (Chip Resistor, Body 1.0x0.5mm)
pins: 1, 2

## RES_5K6_0402_1%
designator R?, comment value 5K6  (hidden comment: 5K6 1% 0402)
5K6 0.063W 1% 0402 (1005 Metric); Manufacturer: KOA Speer; PartNumber: RK73H1ETTP5601F; Tolerance: 1%; Power: 0.063W; Mounting Technology: Surface Mount; PackageReference: 0402; PackageDescription: 0402 (1005 Metric); ComponentLink1Description: Datasheet; ComponentLink1URL: http://www.koaspeer.com/catimages/Products/RK73H/RK73H.pdf
footprint R0402[1005] (Chip Resistor, Body 1.0x0.5mm)
pins: 1, 2

## RES_6K49_0402_1%
designator R?, comment value 6K49  (hidden comment: 6K49 1% 0402)
6K49 0.063W 1% 0402 (1005 Metric); Manufacturer: KOA Speer; PartNumber: RK73H1ETTP6491F; Tolerance: 1%; Power: 0.063W; Mounting Technology: Surface Mount; PackageReference: 0402; PackageDescription: 0402 (1005 Metric); ComponentLink1Description: Datasheet; ComponentLink1URL: http://www.koaspeer.com/catimages/Products/RK73H/RK73H.pdf
footprint R0402[1005] (Chip Resistor, Body 1.0x0.5mm)
pins: 1, 2

## RES_6K98_0402_1%
designator R?, comment value 6K98  (hidden comment: 6K98 1% 0402)
6K98 0.063W 1% 0402 (1005 Metric); Manufacturer: KOA Speer; PartNumber: RK73H1ETTP6981F; Tolerance: 1%; Power: 0.063W; Mounting Technology: Surface Mount; PackageReference: 0402; PackageDescription: 0402 (1005 Metric); ComponentLink1Description: Datasheet; ComponentLink1URL: http://www.koaspeer.com/catimages/Products/RK73H/RK73H.pdf
footprint R0402[1005] (Chip Resistor, Body 1.0x0.5mm)
pins: 1, 2

## RES_7K5_0402_1%
designator R?, comment value 7K5  (hidden comment: 7K5 1% 0402)
7K5 0.063W 1% 0402 (1005 Metric); Manufacturer: KOA Speer; PartNumber: RK73H1ETTP7501F; Tolerance: 1%; Power: 0.063W; Mounting Technology: Surface Mount; PackageReference: 0402; PackageDescription: 0402 (1005 Metric); ComponentLink1Description: Datasheet; ComponentLink1URL: http://www.koaspeer.com/catimages/Products/RK73H/RK73H.pdf
footprint R0402[1005] (Chip Resistor, Body 1.0x0.5mm)
pins: 1, 2

## RES_10K_0402_0.1%
designator R?, comment value 10K  (hidden comment: 10K 0.1% 0402)
10K 0.063W 0.1% 0402 (1005 Metric); Manufacturer: KOA Speer; PartNumber: RT0402BRB0710KL; Tolerance: 0.1%; Power: 0.063W; Mounting Technology: Surface Mount; PackageReference: 0402; PackageDescription: 0402 (1005 Metric); ComponentLink1Description: Datasheet; ComponentLink1URL: http://www.koaspeer.com/catimages/Products/RK73H/RK73H.pdf
footprint R0402[1005] (Chip Resistor, Body 1.0x0.5mm)
pins: 1, 2

## RES_10K_0402_1%
designator R?, comment value 10K  (hidden comment: 10K 1% 0402)
10K 0.063W 1% 0402 (1005 Metric); Manufacturer: KOA Speer; PartNumber: RK73H1ETTP1002F; Tolerance: 1%; Power: 0.063W; Mounting Technology: Surface Mount; PackageReference: 0402; PackageDescription: 0402 (1005 Metric); ComponentLink1Description: Datasheet; ComponentLink1URL: http://www.koaspeer.com/catimages/Products/RK73H/RK73H.pdf
footprint R0402[1005] (Chip Resistor, Body 1.0x0.5mm)
pins: 1, 2

## RES_10M_0402_1%
designator R?, comment value 10M  (hidden comment: 10M 1% 0402)
10M 0.063W 1% 0402 (1005 Metric); Manufacturer: KOA Speer; PartNumber: RK73H1ETTP1005F; Tolerance: 1%; Power: 0.063W; Mounting Technology: Surface Mount; PackageReference: 0402; PackageDescription: 0402 (1005 Metric); ComponentLink1Description: Datasheet; ComponentLink1URL: http://www.koaspeer.com/catimages/Products/RK73H/RK73H.pdf
footprint R0402[1005] (Chip Resistor, Body 1.0x0.5mm)
pins: 1, 2

## RES_10R_0402_1%
designator R?, comment value 10R  (hidden comment: 10R 1% 0402)
10R 0.063W 1% 0402 (1005 Metric); Manufacturer: KOA Speer; PartNumber: RK73H1ETTP10R0F; Tolerance: 1%; Power: 0.063W; Mounting Technology: Surface Mount; PackageReference: 0402; PackageDescription: 0402 (1005 Metric); ComponentLink1Description: Datasheet; ComponentLink1URL: http://www.koaspeer.com/catimages/Products/RK73H/RK73H.pdf
footprint R0402[1005] (Chip Resistor, Body 1.0x0.5mm)
pins: 1, 2

## RES_11K_0402_1%
designator R?, comment value 11K  (hidden comment: 11K 1% 0402)
11K 0.063W 1% 0402 (1005 Metric); Manufacturer: KOA Speer; PartNumber: RK73H1ETTP1102F; Tolerance: 1%; Power: 0.063W; Mounting Technology: Surface Mount; PackageReference: 0402; PackageDescription: 0402 (1005 Metric); ComponentLink1Description: Datasheet; ComponentLink1URL: http://www.koaspeer.com/catimages/Products/RK73H/RK73H.pdf
footprint R0402[1005] (Chip Resistor, Body 1.0x0.5mm)
pins: 1, 2

## RES_12.1K_0402_1%
designator R?, comment value 12.1K  (hidden comment: 12.1K 1% 0402)
12.1K 0.063W 1% 0402 (1005 Metric); Manufacturer: KOA Speer; PartNumber: RK73H1ETTP1212F; Tolerance: 1%; Power: 0.063W; Mounting Technology: Surface Mount; PackageReference: 0402; PackageDescription: 0402 (1005 Metric); ComponentLink1Description: Datasheet; ComponentLink1URL: http://www.koaspeer.com/catimages/Products/RK73H/RK73H.pdf
footprint R0402[1005] (Chip Resistor, Body 1.0x0.5mm)
pins: 1, 2

## RES_12K_0402_1%
designator R?, comment value 12K  (hidden comment: 12K 1% 0402)
12K 0.063W 1% 0402 (1005 Metric); Manufacturer: KOA Speer; PartNumber: RK73H1ETTP1202F; Tolerance: 1%; Power: 0.063W; Mounting Technology: Surface Mount; PackageReference: 0402; PackageDescription: 0402 (1005 Metric); ComponentLink1Description: Datasheet; ComponentLink1URL: http://www.koaspeer.com/catimages/Products/RK73H/RK73H.pdf
footprint R0402[1005] (Chip Resistor, Body 1.0x0.5mm)
pins: 1, 2

## RES_15K_0402_1%
designator R?, comment value 15K  (hidden comment: 15K 1% 0402)
15K 0.063W 1% 0402 (1005 Metric); Manufacturer: KOA Speer; PartNumber: RK73H1ETTP1502F; Tolerance: 1%; Power: 0.063W; Mounting Technology: Surface Mount; PackageReference: 0402; PackageDescription: 0402 (1005 Metric); ComponentLink1Description: Datasheet; ComponentLink1URL: http://www.koaspeer.com/catimages/Products/RK73H/RK73H.pdf
footprint R0402[1005] (Chip Resistor, Body 1.0x0.5mm)
pins: 1, 2

## RES_15R_0402_1%
designator R?, comment value 15R  (hidden comment: 15R 1% 0402)
15R 0.063W 1% 0402 (1005 Metric); Manufacturer: KOA Speer; PartNumber: RK73H1ETTP15R0F; Tolerance: 1%; Power: 0.063W; Mounting Technology: Surface Mount; PackageReference: 0402; PackageDescription: 0402 (1005 Metric); ComponentLink1Description: Datasheet; ComponentLink1URL: http://www.koaspeer.com/catimages/Products/RK73H/RK73H.pdf
footprint R0402[1005] (Chip Resistor, Body 1.0x0.5mm)
pins: 1, 2

## RES_16K_0402_1%
designator R?, comment value 16K  (hidden comment: 16K 1% 0402)
16K 0.063W 1% 0402 (1005 Metric); Manufacturer: KOA Speer; PartNumber: RK73H1ETTP1602F; Tolerance: 1%; Power: 0.063W; Mounting Technology: Surface Mount; PackageReference: 0402; PackageDescription: 0402 (1005 Metric); ComponentLink1Description: Datasheet; ComponentLink1URL: http://www.koaspeer.com/catimages/Products/RK73H/RK73H.pdf
footprint R0402[1005] (Chip Resistor, Body 1.0x0.5mm)
pins: 1, 2

## RES_18K_0402_1%
designator R?, comment value 18K  (hidden comment: 18K 1% 0402)
18K 0.063W 1% 0402 (1005 Metric); Manufacturer: KOA Speer; PartNumber: RK73H1ETTP1802F; Tolerance: 1%; Power: 0.063W; Mounting Technology: Surface Mount; PackageReference: 0402; PackageDescription: 0402 (1005 Metric); ComponentLink1Description: Datasheet; ComponentLink1URL: http://www.koaspeer.com/catimages/Products/RK73H/RK73H.pdf
footprint R0402[1005] (Chip Resistor, Body 1.0x0.5mm)
pins: 1, 2

## RES_20K_0402_1%
designator R?, comment value 20K  (hidden comment: 20K 1% 0402)
20K 0.063W 1% 0402 (1005 Metric); Manufacturer: KOA Speer; PartNumber: RK73H1ETTP2002F; Tolerance: 1%; Power: 0.063W; Mounting Technology: Surface Mount; PackageReference: 0402; PackageDescription: 0402 (1005 Metric); ComponentLink1Description: Datasheet; ComponentLink1URL: http://www.koaspeer.com/catimages/Products/RK73H/RK73H.pdf
footprint R0402[1005] (Chip Resistor, Body 1.0x0.5mm)
pins: 1, 2

## RES_22K_0402_1%
designator R?, comment value 22K  (hidden comment: 22K 1% 0402)
22K 0.063W 1% 0402 (1005 Metric); Manufacturer: KOA Speer; PartNumber: RK73H1ETTP2202F; Tolerance: 1%; Power: 0.063W; Mounting Technology: Surface Mount; PackageReference: 0402; PackageDescription: 0402 (1005 Metric); ComponentLink1Description: Datasheet; ComponentLink1URL: http://www.koaspeer.com/catimages/Products/RK73H/RK73H.pdf
footprint R0402[1005] (Chip Resistor, Body 1.0x0.5mm)
pins: 1, 2

## RES_22R_0402_1%
designator R?, comment value 22R  (hidden comment: 22R 1% 0402)
22R 0.063W 1% 0402 (1005 Metric); Manufacturer: KOA Speer; PartNumber: RK73H1ETTP22R0F; Tolerance: 1%; Power: 0.063W; Mounting Technology: Surface Mount; PackageReference: 0402; PackageDescription: 0402 (1005 Metric); ComponentLink1Description: Datasheet; ComponentLink1URL: http://www.koaspeer.com/catimages/Products/RK73H/RK73H.pdf
footprint R0402[1005] (Chip Resistor, Body 1.0x0.5mm)
pins: 1, 2

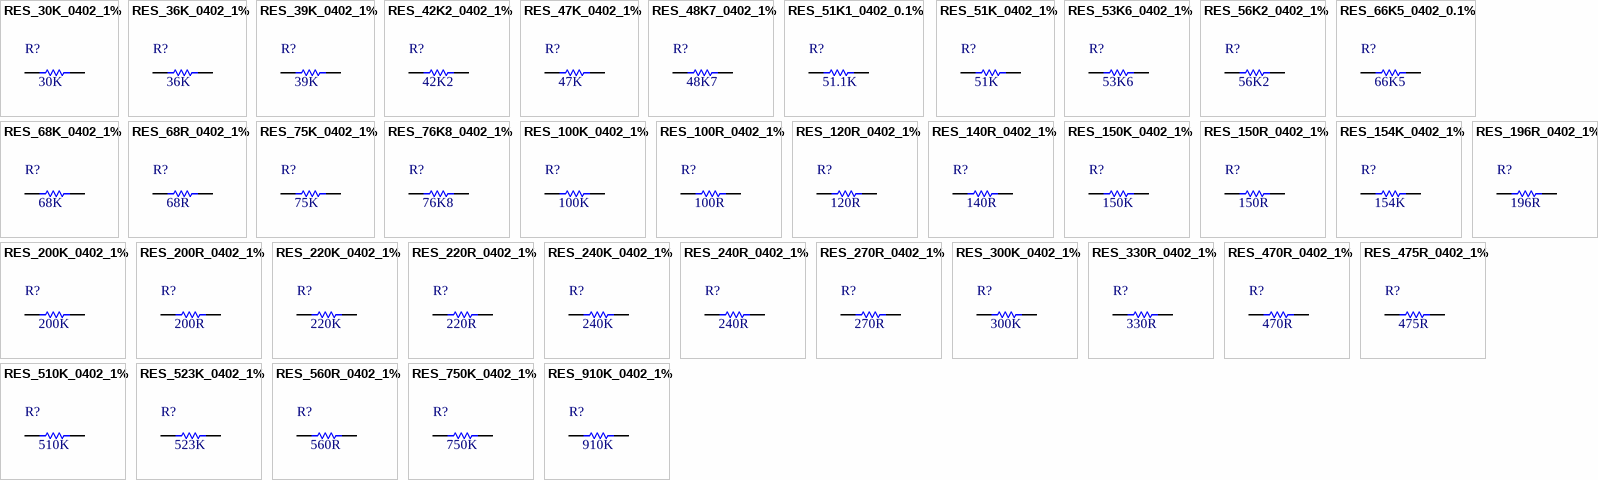
[diagram p6: symbols RES_30K_0402_1% to RES_910K_0402_1%]

## RES_30K_0402_1%
designator R?, comment value 30K  (hidden comment: 30K 1% 0402)
30K 0.063W 1% 0402 (1005 Metric); Manufacturer: KOA Speer; PartNumber: RK73H1ETTP3002F; Tolerance: 1%; Power: 0.063W; Mounting Technology: Surface Mount; PackageReference: 0402; PackageDescription: 0402 (1005 Metric); ComponentLink1Description: Datasheet; ComponentLink1URL: http://www.koaspeer.com/catimages/Products/RK73H/RK73H.pdf
footprint R0402[1005] (Chip Resistor, Body 1.0x0.5mm)
pins: 1, 2

## RES_36K_0402_1%
designator R?, comment value 36K  (hidden comment: 36K 1% 0402)
36K 0.063W 1% 0402 (1005 Metric); Manufacturer: KOA Speer; PartNumber: RK73H1ETTP3602F; Tolerance: 1%; Power: 0.063W; Mounting Technology: Surface Mount; PackageReference: 0402; PackageDescription: 0402 (1005 Metric); ComponentLink1Description: Datasheet; ComponentLink1URL: http://www.koaspeer.com/catimages/Products/RK73H/RK73H.pdf
footprint R0402[1005] (Chip Resistor, Body 1.0x0.5mm)
pins: 1, 2

## RES_39K_0402_1%
designator R?, comment value 39K  (hidden comment: 39K 1% 0402)
39K 0.063W 1% 0402 (1005 Metric); Manufacturer: KOA Speer; PartNumber: RK73H1ETTP3902F; Tolerance: 1%; Power: 0.063W; Mounting Technology: Surface Mount; PackageReference: 0402; PackageDescription: 0402 (1005 Metric); ComponentLink1Description: Datasheet; ComponentLink1URL: http://www.koaspeer.com/catimages/Products/RK73H/RK73H.pdf
footprint R0402[1005] (Chip Resistor, Body 1.0x0.5mm)
pins: 1, 2

## RES_42K2_0402_1%
designator R?, comment value 42K2  (hidden comment: 42K2 1% 0402)
42K2 0.063W 1% 0402 (1005 Metric); Manufacturer: KOA Speer; PartNumber: RK73H1ETTP4222F; Tolerance: 1%; Power: 0.063W; Mounting Technology: Surface Mount; PackageReference: 0402; PackageDescription: 0402 (1005 Metric); ComponentLink1Description: Datasheet; ComponentLink1URL: http://www.koaspeer.com/catimages/Products/RK73H/RK73H.pdf
footprint R0402[1005] (Chip Resistor, Body 1.0x0.5mm)
pins: 1, 2

## RES_47K_0402_1%
designator R?, comment value 47K  (hidden comment: 47K 1% 0402)
47K 0.063W 1% 0402 (1005 Metric); Manufacturer: KOA Speer; PartNumber: RK73H1ETTP4702F; Tolerance: 1%; Power: 0.063W; Mounting Technology: Surface Mount; PackageReference: 0402; PackageDescription: 0402 (1005 Metric); ComponentLink1Description: Datasheet; ComponentLink1URL: http://www.koaspeer.com/catimages/Products/RK73H/RK73H.pdf
footprint R0402[1005] (Chip Resistor, Body 1.0x0.5mm)
pins: 1, 2

## RES_48K7_0402_1%
designator R?, comment value 48K7  (hidden comment: 48K7 1% 0402)
48K7 0.063W 1% 0402 (1005 Metric); Manufacturer: KOA Speer; PartNumber: RK73H1ETTP4872F; Tolerance: 1%; Power: 0.063W; Mounting Technology: Surface Mount; PackageReference: 0402; PackageDescription: 0402 (1005 Metric); ComponentLink1Description: Datasheet; ComponentLink1URL: http://www.koaspeer.com/catimages/Products/RK73H/RK73H.pdf
footprint R0402[1005] (Chip Resistor, Body 1.0x0.5mm)
pins: 1, 2

## RES_51K1_0402_0.1%
designator R?, comment value 51.1K  (hidden comment: 51.1K  0.1% 0402)
51.1K 0.063W 0.1% 0402 (1005 Metric); Manufacturer: KOA Speer; PartNumber: RT0402BRB0751K1L; Tolerance: 0.1%; Power: 0.063W; Mounting Technology: Surface Mount; PackageReference: 0402; PackageDescription: 0402 (1005 Metric); ComponentLink1Description: Datasheet; ComponentLink1URL: http://www.koaspeer.com/catimages/Products/RK73H/RK73H.pdf
footprint R0402[1005] (Chip Resistor, Body 1.0x0.5mm)
pins: 1, 2

## RES_51K_0402_1%
designator R?, comment value 51K  (hidden comment: 51K 1% 0402)
51K 0.063W 1% 0402 (1005 Metric); Manufacturer: KOA Speer; PartNumber: RK73H1ETTP5102F; Tolerance: 1%; Power: 0.063W; Mounting Technology: Surface Mount; PackageReference: 0402; PackageDescription: 0402 (1005 Metric); ComponentLink1Description: Datasheet; ComponentLink1URL: http://www.koaspeer.com/catimages/Products/RK73H/RK73H.pdf
footprint R0402[1005] (Chip Resistor, Body 1.0x0.5mm)
pins: 1, 2

## RES_53K6_0402_1%
designator R?, comment value 53K6  (hidden comment: 53K6 1% 0402)
53K6 0.063W 1% 0402 (1005 Metric); Manufacturer: KOA Speer; PartNumber: RK73H1ETTP5362F; Tolerance: 1%; Power: 0.063W; Mounting Technology: Surface Mount; PackageReference: 0402; PackageDescription: 0402 (1005 Metric); ComponentLink1Description: Datasheet; ComponentLink1URL: http://www.koaspeer.com/catimages/Products/RK73H/RK73H.pdf
footprint R0402[1005] (Chip Resistor, Body 1.0x0.5mm)
pins: 1, 2

## RES_56K2_0402_1%
designator R?, comment value 56K2  (hidden comment: 56K2 1% 0402)
56K2 0.063W 1% 0402 (1005 Metric); Manufacturer: KOA Speer; PartNumber: RK73H1ETTP5622F; Tolerance: 1%; Power: 0.063W; Mounting Technology: Surface Mount; PackageReference: 0402; PackageDescription: 0402 (1005 Metric); ComponentLink1Description: Datasheet; ComponentLink1URL: http://www.koaspeer.com/catimages/Products/RK73H/RK73H.pdf
footprint R0402[1005] (Chip Resistor, Body 1.0x0.5mm)
pins: 1, 2